# EAGLE library part LTC1765 (library IC)
*Linear Tech. LTC1765 Monolithic 3A, 1.25MHz Step-Down Switching Regulator
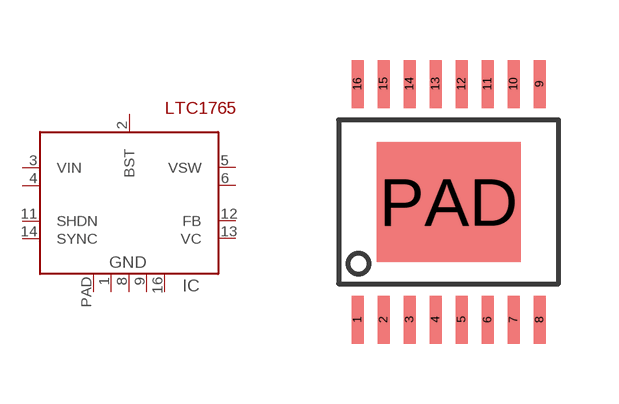
[diagram p105: symbol with the pads of TSSOP16_P; footprint TSSOP16_P]

Designator prefix IC

## LTC1765-FE  [TSSOP16_P]
1  GND  pwr
2  BST
3  VIN  pwr
4  VIN  pwr
5  VSW  pwr
6  VSW  pwr
8  GND  pwr
9  GND  pwr
11  SHDN
12  FB
13  VC
14  SYNC
16  GND  pwr
PAD  GND  pwr

## Footprint TSSOP16_P (pad centres in mm)
TSSOP16 with Pad (linear tech)
smd 0.3 x 1.2: 1 -2.275,-2.95; 2 -1.625,-2.95; 3 -0.975,-2.95; 4 -0.325,-2.95; 5 0.325,-2.95; 6 0.975,-2.95; 7 1.625,-2.95; 8 2.275,-2.95; 9 2.275,2.95; 10 1.625,2.95; 11 0.975,2.95; 12 0.325,2.95; 13 -0.325,2.95; 14 -0.975,2.95; 15 -1.625,2.95; 16 -2.275,2.95
smd 3.6 x 3: PAD 0,0